# Altium footprint library Beethoven-clock.PcbLib: 36 footprints (part 1 of 3)
Each footprint in its own frame and in the unit in brackets; x right, y up, seen from the top. Pads: shape width x height; smd on the part's side, far side on the other; paste and mask are expansions set on the pad; w line width, h text height; cw(c..) or ccw(c..) is an arc to the next point about the centre after c.
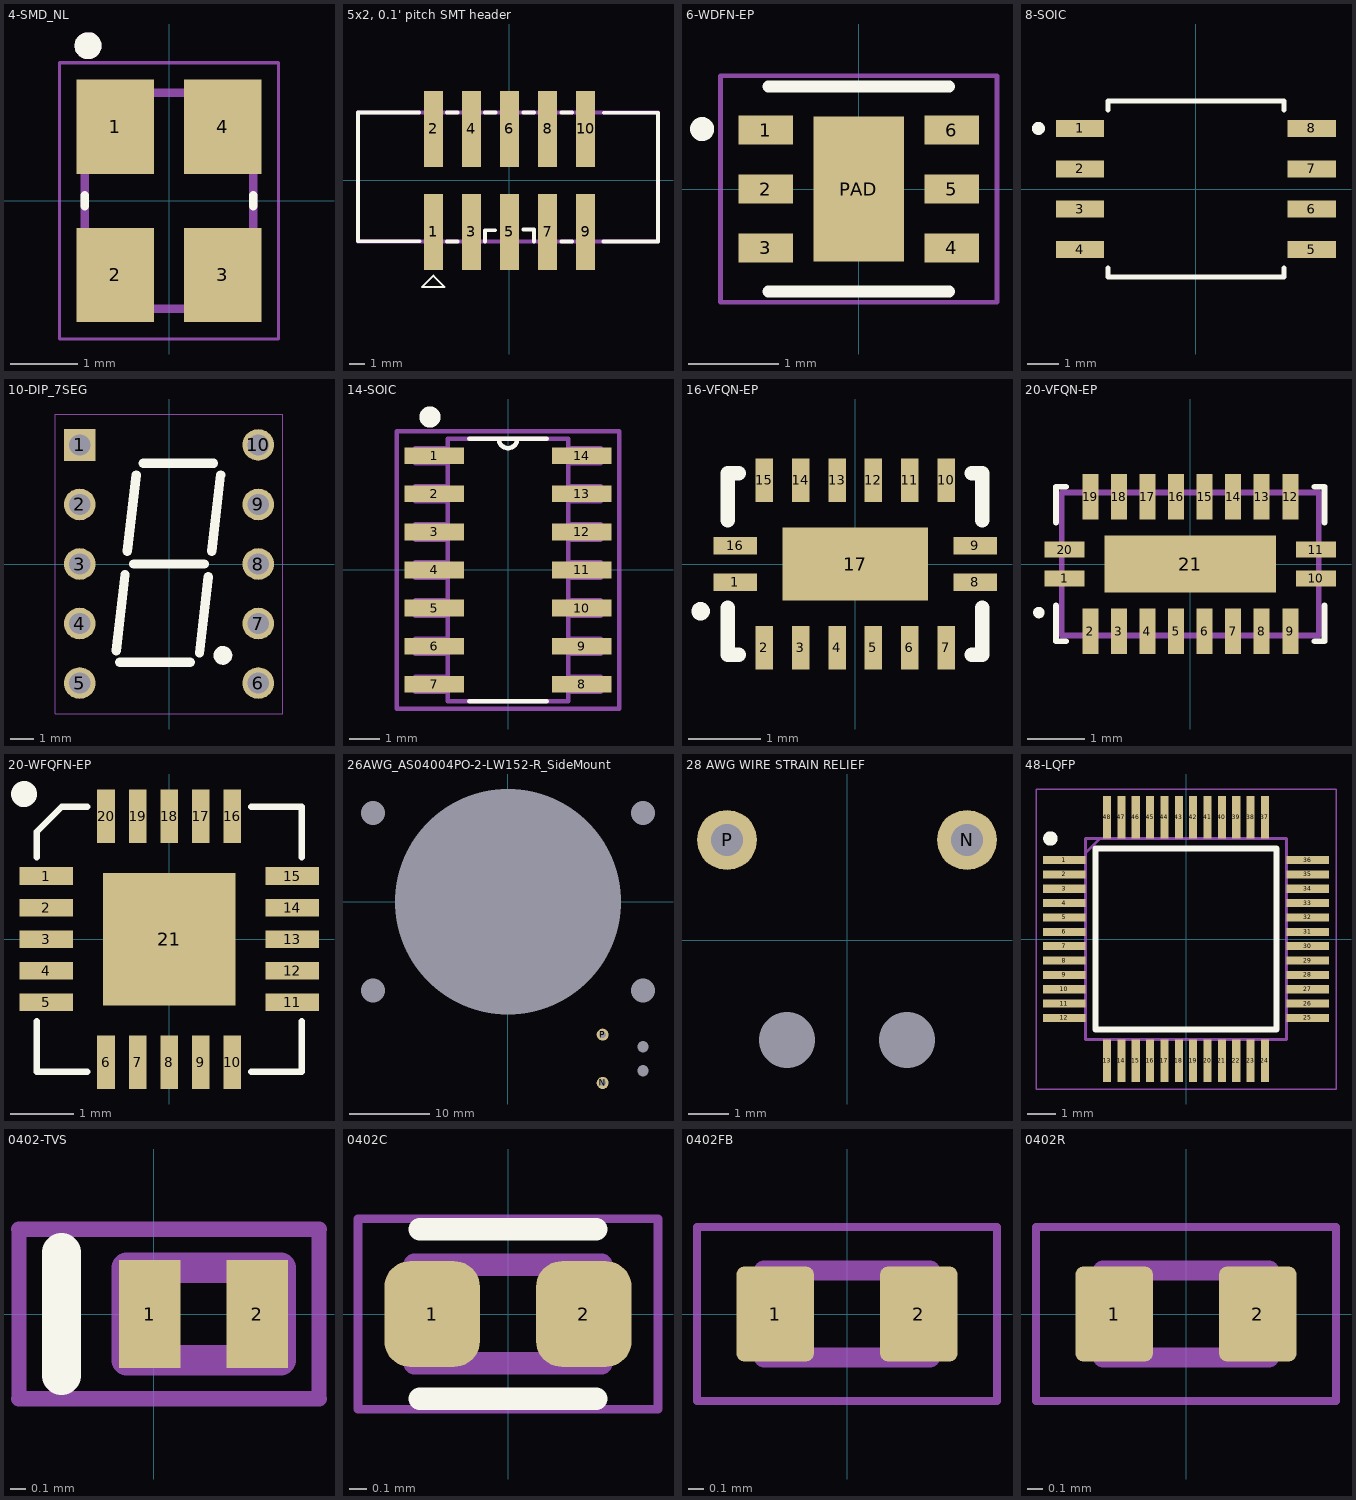
[diagram p0: the footprints below, top view; thin cyan lines are the x and y axes]

## 4-SMD_NL [mm]
height 0.75
pads (4):
  rect 1.15x1.4 smd: 1(-0.8,1.1) 2(-0.8,-1.1) 3(0.8,-1.1) 4(0.8,1.1)
Top Overlay:
  circle w0.2: c-1.2,2.3 r0.1
  lines w0.127: -1.25,-0.08 -1.25,0.08 ; 1.25,-0.08 1.25,0.08
Mechanical 13:
  circle w0.2: c-1.2,2.3 r0.1
  lines w0.127: -1.25,-1.6 -1.25,1.6 1.25,1.6 1.25,-1.6 -1.25,-1.6
Mechanical 15:
  lines w0.05: -1.625,-2.05 -1.625,2.05 1.625,2.05 1.625,-2.05 -1.625,-2.05
3D body "step_temp.STEP": height 0.75, standoff 0, extent -1.25,-1.6 1.25,1.6

## 5x2, 0.1' pitch SMT header [mil] "CONN HEADER SMD 10POS 2.54MM"
pads (10):
  rect 50x200 smd: 1(-200,-135) 2(-200,135) 3(-100,-135) 4(-100,135) 5(0,-135) 6(0,135) 7(100,-135) 8(100,135) 9(200,-135) 10(200,135)
Top Overlay:
  lines w5: -230,-280 -200,-250 -170,-280 -230,-280
  lines w10: -237,178 -397.64,178 -397.64,-159.53 -236,-159.53 ; -164,-160 -136,-160 ; -164,178 -136,178 ; -64,-160 -64,-131 -38,-131 ; -64,178 -36,178 ; 36,-129 64,-129 64,-160 ; 36,178 64,178 ; 136,-160 164,-160 ; 136,178 164,178 ; 247,-160.28 389.76,-160.28 389.76,177.7 248,177.7
Mechanical 1:
  lines w10: -397.64,-160 389.76,-160 389.76,178 -397.64,178 -397.64,-160
3D body "72454-010LF v2.step": height 495.73, standoff 0.73, extent -396.3,-164.63 393.7,180.37

## 6-WDFN-EP [mm]
pads (7):
  rect 0.6x0.32 smd mask+0.038: 1(-1.025,0.65) 2(-1.025,0) 3(-1.025,-0.65) 4(1.025,-0.65) 5(1.025,0) 6(1.025,0.65)
  rect 1x1.6 smd paste-2 mask+0.038: PAD(0,0)
Top Overlay:
  circle w0.152: c-1.727,0.66 r0.056
  lines w0.127: -1,-1.13 1,-1.13 ; -1,1.13 1,1.13
Top Paste:
  region: 0.316,-0.506 -0.316,-0.506 -0.316,0.506 0.316,0.506
Mechanical 15:
  lines w0.05: -1.524,-1.25 1.524,-1.25 1.524,1.25 -1.524,1.25 -1.524,-1.25
3D body "TVS1400DRVR.step": height 0.8, standoff 0, extent -1,-1 1,1

## 8-SOIC [mil]
pads (8):
  rect 60x21 smd paste+0: 1(-143.5,75) 2(-143.5,25) 3(-143.5,-25) 4(-143.5,-75) 5(143.5,-75) 6(143.5,-25) 7(143.5,25) 8(143.5,75)
Top Overlay:
  circle w10: c-195,75 r3
  lines w6: -109,-97.8 -109,-109 109,-109 109,-97.8 ; -109,97.8 -109,109 109,109 109,97.8
3D body "W25Q32JVSSIQ.step": height 85.04, standoff 0, extent -155.51,-103.94 155.51,103.94

## 10-DIP_7SEG [mm]
pads (10):
  rect 1.35x1.35 / inner round 1.35 / far side rect 1.35x1.35 hole 0.9: 1(-3.81,5.08)
  round 1.35 hole 0.9: 2(-3.81,2.54) 3(-3.81,0) 4(-3.81,-2.54) 5(-3.81,-5.08) 6(3.81,-5.08) 7(3.81,-2.54) 8(3.81,0) 9(3.81,2.54) 10(3.81,5.08)
Top Overlay:
  circle w0.4: c2.3,-3.9 r0.2
  lines w0.4: -2.25,-3.7 -1.875,-0.45 ; -2.1,-4.2 0.9,-4.2 ; -1.775,0.55 -1.4,3.8 ; -1.5,0 1.5,0 ; -1.1,4.3 1.9,4.3 ; 1.3,-3.8 1.675,-0.55 ; 1.825,0.55 2.2,3.8
Mechanical 15:
  lines w0.05: -4.85,-6.4 -4.85,6.4 4.85,6.4 4.85,-6.4 -4.85,-6.4
3D body: height 6.4, standoff 0, extent -4.85,-6.4 4.85,6.4

## 14-SOIC [mil]
pads (14):
  rect 78x22 smd: 1(-97,150) 2(-97,100) 3(-97,50) 4(-97,0) 5(-97,-50) 6(-97,-100) 7(-97,-150) 8(97,-150) 9(97,-100) 10(97,-50) 11(97,0) 12(97,50) 13(97,100) 14(97,150)
Top Overlay:
  circle w20: c-102.36,200.79 r3.94
  lines w6: -51,-172 51,-172 ; -51,172 51,172 ; -12,172 ccw(c0,172) 12,172
Mechanical 13:
  lines w6: -12,172 ccw(c0,172) 12,172 ; -122,-160 -122,-140 -79,-140 -79,-160 -122,-160 ; -122,-110 -122,-90 -79,-90 -79,-110 -122,-110 ; -122,-60 -122,-40 -79,-40 -79,-60 -122,-60 ; -122,-10 -122,10 -79,10 -79,-10 -122,-10 ; -122,40 -122,60 -79,60 -79,40 -122,40 ; -122,90 -122,110 -79,110 -79,90 -122,90 ; -122,140 -122,160 -79,160 -79,140 -122,140 ; -79,-172 79,-172 79,172 -79,172 -79,-172 ; 79,-160 79,-140 122,-140 122,-160 79,-160 ; 79,-110 79,-90 122,-90 122,-110 79,-110 ; 79,-60 79,-40 122,-40 122,-60 79,-60 ; 79,-10 79,10 122,10 122,-10 79,-10 ; 79,40 79,60 122,60 122,40 79,40 ; 79,90 79,110 122,110 122,90 79,90 ; 79,140 79,160 122,160 122,140 79,140
Mechanical 15:
  lines w6: -146,-182 -146,182 ; -146,-182 146,-182 ; -146,-182 -146,182 ; -146,182 146,182 ; -146,182 146,182 ; 146,-182 146,182 ; 146,-182 146,182
3D body "SOIC14_SL_MCH.step": height 68.9, standoff 0, extent -122.05,-171.26 122.05,169.29

## 16-VFQN-EP [mm]
pads (17):
  rect 0.6x0.24 smd mask+0.051: 1(-1.65,-0.25) 8(1.65,-0.25) 9(1.65,0.25) 16(-1.65,0.25)
  rect 0.24x0.6 smd mask+0.051: 2(-1.25,-1.15) 3(-0.75,-1.15) 4(-0.25,-1.15) 5(0.25,-1.15) 6(0.75,-1.15) 7(1.25,-1.15) 10(1.25,1.15) 11(0.75,1.15) 12(0.25,1.15) 13(-0.25,1.15) 14(-0.75,1.15) 15(-1.25,1.15)
  rect 2x1 smd mask+0.051: 17(0,0)
Top Overlay:
  circle w0.152: c-2.125,-0.65 r0.051
  lines w0.2: -1.75,-0.6 -1.75,-1.25 -1.6,-1.25 ; -1.75,0.6 -1.75,1.25 -1.6,1.25 ; 1.6,-1.25 1.75,-1.25 1.75,-0.6 ; 1.6,1.25 1.75,1.25 1.75,0.6
3D body "74HC595BQ,115.stp": height 0.85, standoff 0, extent -1.75,-1.25 1.75,1.25

## 20-VFQN-EP [mm]
pads (21):
  rect 0.7x0.28 smd mask+0.051: 1(-2.2,-0.25) 10(2.2,-0.25) 11(2.2,0.25) 20(-2.2,0.25)
  rect 0.28x0.8 smd mask+0.051: 2(-1.75,-1.175) 3(-1.25,-1.175) 4(-0.75,-1.175) 5(-0.25,-1.175) 6(0.25,-1.175) 7(0.75,-1.175) 8(1.25,-1.175) 9(1.75,-1.175) 12(1.75,1.175) 13(1.25,1.175) 14(0.75,1.175) 15(0.25,1.175) 16(-0.25,1.175) 17(-0.75,1.175) 18(-1.25,1.175) 19(-1.75,1.175)
  rect 3x1 smd mask+0.051: 21(0,0)
Top Overlay:
  lines w0.1: -2.35,-0.725 -2.35,-1.35 -2.175,-1.35 ; -2.35,0.725 -2.35,1.35 -2.175,1.35 ; 2.175,-1.35 2.35,-1.35 2.35,-0.725 ; 2.175,1.35 2.35,1.35 2.35,0.725 ; -2.7,-0.85 cw(c-2.65,-0.85) -2.6,-0.85 cw(c-2.65,-0.85) -2.7,-0.85
Mechanical 15:
  lines w0.1: -2.25,-1.25 -2.25,1.25 2.25,1.25 2.25,-1.25 -2.25,-1.25
3D body "74LVC244ABQ-Q100X.STEP": height 1, standoff 0, extent -2.25,-1.25 2.25,1.25

## 20-WFQFN-EP [mm]
pads (21):
  rect 0.85x0.28 smd mask+0.051: 1(-1.95,1) 2(-1.95,0.5) 3(-1.95,0) 4(-1.95,-0.5) 5(-1.95,-1) 11(1.95,-1) 12(1.95,-0.5) 13(1.95,0) 14(1.95,0.5) 15(1.95,1)
  rect 0.28x0.85 smd mask+0.051: 6(-1,-1.95) 7(-0.5,-1.95) 8(0,-1.95) 9(0.5,-1.95) 10(1,-1.95) 16(1,1.95) 17(0.5,1.95) 18(0,1.95) 19(-0.5,1.95) 20(-1,1.95)
  rect 2.1x2.1 smd mask+0.051: 21(0,0)
Top Overlay:
  circle w0.25: c-2.3,2.3 r0.08
  lines w0.1: -2.1,-1.3 -2.1,-2.1 -1.3,-2.1 ; -1.3,2.1 -1.7,2.1 -2.1,1.7 ; 1.3,-2.1 2.1,-2.1 2.1,-1.3 ; 1.3,2.1 2.1,2.1 2.1,1.3 ; -2.1,1.7 -2.1,1.3 -2.1,1.7
3D body "NAU8315YG.stp": height 0.8, standoff 0, extent -2.05,-2.05 2.05,2.05

## 26AWG_AS04004PO-2-LW152-R_SideMount [mm]
pads (9):
  round 0 hole 3 unplated: 1(-16.75,-11) 1(-16.75,11) 1(16.75,-11) 1(16.75,11)
  round 0 hole 28 unplated: 1(0,0)
  round 0 hole 1.4 unplated: H(16.75,-21) H(16.75,-18)
  round 1.5 hole 0.8: N(11.75,-22.5) P(11.75,-16.5)
3D body "speaker model v10.step": height 11.7, standoff -3.7, extent -20,-22.716 39.195,14.25

## 28 AWG WIRE STRAIN RELIEF [mm]
pads (4):
  round 0 hole 1.4: H(-1.5,-2.5) H(1.5,-2.5)
  round 1.5 hole 0.8: N(3,2.5) P(-3,2.5)
3D body "speaker-model.step": height 14.2, standoff -10.8, extent -20.51,-2.768 20.49,144.116

## 48-LQFP [mm]
pads (48):
  rect 1.475x0.28 smd mask+0.03: 1(-4.238,2.75) 2(-4.238,2.25) 3(-4.238,1.75) 4(-4.238,1.25) 5(-4.238,0.75) 6(-4.238,0.25) 7(-4.238,-0.25) 8(-4.238,-0.75) 9(-4.238,-1.25) 10(-4.238,-1.75) 11(-4.238,-2.25) 12(-4.238,-2.75) 25(4.238,-2.75) 26(4.238,-2.25) 27(4.238,-1.75) 28(4.238,-1.25) 29(4.238,-0.75) 30(4.238,-0.25) 31(4.238,0.25) 32(4.238,0.75) 33(4.238,1.25) 34(4.238,1.75) 35(4.238,2.25) 36(4.238,2.75)
  rect 0.28x1.475 smd mask+0.03: 13(-2.75,-4.238) 14(-2.25,-4.238) 15(-1.75,-4.238) 16(-1.25,-4.238) 17(-0.75,-4.238) 18(-0.25,-4.238) 19(0.25,-4.238) 20(0.75,-4.238) 21(1.25,-4.238) 22(1.75,-4.238) 23(2.25,-4.238) 24(2.75,-4.238) 37(2.75,4.238) 38(2.25,4.238) 39(1.75,4.238) 40(1.25,4.238) 41(0.75,4.238) 42(0.25,4.238) 43(-0.25,4.238) 44(-0.75,4.238) 45(-1.25,4.238) 46(-1.75,4.238) 47(-2.25,4.238) 48(-2.75,4.238)
Top Overlay:
  circle w0.25: c-4.725,3.5 r0.125
  lines w0.2: -3.15,-3.15 3.15,-3.15 3.15,3.15 -3.15,3.15 -3.15,-3.15
Mechanical 15:
  lines w0.1: -3.5,3 -3,3.5 ; -3.5,-3.5 3.5,-3.5 3.5,3.5 -3.5,3.5 -3.5,-3.5
Mechanical 20:
  lines w0.05: -5.225,-5.225 5.225,-5.225 5.225,5.225 -5.225,5.225 -5.225,-5.225
3D body "STM32G031C6T6.stp": height 1.6, standoff 0, extent -4.5,-4.5 4.5,4.5

## 0402-TVS [mm]
pads (2):
  rect 0.4x0.7 smd mask+0.076: 1(-0.025,0) 2(0.675,0)
Top Overlay:
  lines w0.254: -0.6,-0.4 -0.6,0.4
Mechanical 13:
  lines w0.2: -0.175,-0.3 -0.175,0.3 0.825,0.3 0.825,-0.3 -0.175,-0.3
Mechanical 15:
  lines w0.1: -0.875,-0.55 -0.875,-0.275 -0.875,0.275 -0.875,0.55 ; 1.075,-0.55 1.075,0.55
  lines w0.102: -0.875,-0.55 1.075,-0.55 ; -0.875,0.55 1.075,0.55
3D body "DESD3V3E1BL-7B.stp": height 0.53, standoff 0, extent -0.177,-0.3 0.823,0.3

## 0402C [mm] "0402 SMT Capacitor"
pads (2):
  rrect53% 0.54x0.6 smd: 1(-0.43,0) 2(0.43,0)
Top Overlay:
  lines w0.127: -0.5,-0.48 0.5,-0.48 ; -0.5,0.48 0.5,0.48
Mechanical 13:
  lines w0.127: -0.53,-0.28 0.53,-0.28 0.53,0.28 -0.53,0.28 -0.53,-0.28
Mechanical 15:
  lines w0.05: -0.85,-0.54 0.85,-0.54 0.85,0.54 -0.85,0.54 -0.85,-0.54
3D body "C0402.STEP": height 0.5, standoff 0, extent -0.5,-0.254 0.5,0.246

## 0402FB [mm] "0402 SMT FB"
pads (2):
  rrect20% 0.49x0.6 smd: 1(-0.455,0) 2(0.455,0)
Mechanical 13:
  lines w0.127: -0.525,-0.275 0.525,-0.275 0.525,0.275 -0.525,0.275 -0.525,-0.275
Mechanical 15:
  lines w0.05: -0.95,-0.55 0.95,-0.55 0.95,0.55 -0.95,0.55 -0.95,-0.55
3D body "IND_1005_TDK.step": height 0.5, standoff 0, extent -0.5,-0.3 0.5,0.3

## 0402R [mm] "0402 SMT Resistor"
pads (2):
  rrect20% 0.49x0.6 smd: 1(-0.455,0) 2(0.455,0)
Mechanical 13:
  lines w0.127: -0.525,-0.275 -0.525,0.275 0.525,0.275 0.525,-0.275 -0.525,-0.275
Mechanical 15:
  lines w0.05: -0.95,-0.55 -0.95,0.55 0.95,0.55 0.95,-0.55 -0.95,-0.55
3D body "Resistor 0402.step": height 0.35, standoff 0, extent -0.75,-0.254 0.75,0.246